# EAGLE library part SI7021 (library NordicSemi)
Humidity and temp sensor Mouser Part No: 634-SI7021-A-GM Manufacturer Part No: Si7021-A10-GM
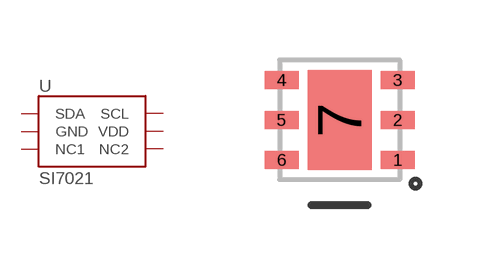
[diagram p5: symbol with the pads of SI7021; footprint SI7021]

Designator prefix U

## SI7021SMD  [SI7021]
1  SDA
2  GND  pwr
3  NC1  nc
4  NC2  nc
5  VDD  pwr
6  SCL

## Footprint SI7021 (pad centres in mm)
Description: HTU21D is a very small, low cost, I2C digital humidity and temperature sensor.
smd 0.85 x 0.45: 1 1.45,-1; 2 1.45,0; 3 1.45,1; 4 -1.45,1; 5 -1.45,0; 6 -1.45,-1
smd 1.6 x 2.5: 7 0,0